# EAGLE library part TSW-S-18 (library con-samtec-tsw)
HEADER
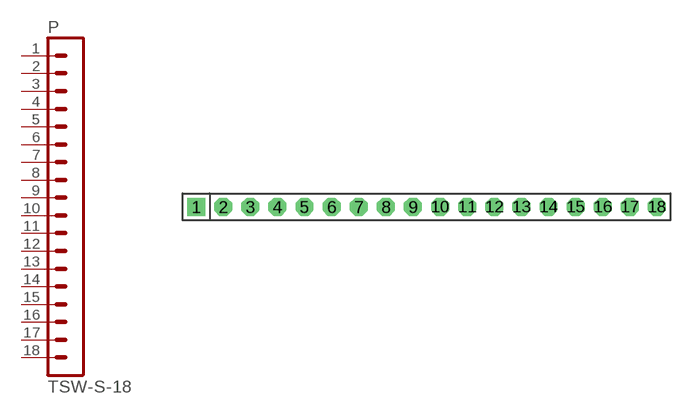
[diagram p12: symbol with the pads of TSW-S-18; footprint TSW-S-18]

Designator prefix P

## TSW-S-18  [TSW-S-18]
1  1  pas
2  2  pas
3  3  pas
4  4  pas
5  5  pas
6  6  pas
7  7  pas
8  8  pas
9  9  pas
10  10  pas
11  11  pas
12  12  pas
13  13  pas
14  14  pas
15  15  pas
16  16  pas
17  17  pas
18  18  pas

## Footprint TSW-S-18 (pad centres in mm)
HEADER
drill 0.914 pad 1.676 square: 1 -21.59,0
drill 0.914 pad 1.676 octagon: 2 -19.05,0; 3 -16.51,0; 4 -13.97,0; 5 -11.43,0; 6 -8.89,0; 7 -6.35,0; 8 -3.81,0; 9 -1.27,0; 10 1.27,0; 11 3.81,0; 12 6.35,0; 13 8.89,0; 14 11.43,0; 15 13.97,0; 16 16.51,0; 17 19.05,0; 18 21.59,0